# EAGLE library part LSM6DSL (library clackboard_lib)
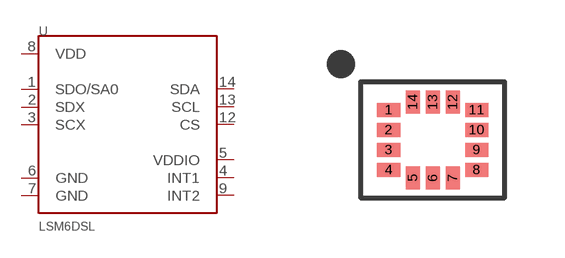
[diagram p11: symbol with the pads of LSM6DSL; footprint LSM6DSL]

Designator prefix U

## LSM6DSL  [LSM6DSL]
1  SDO/SA0
2  SDX
3  SCX
4  INT1
5  VDDIO
6  GND
7  GND
8  VDD
9  INT2
12  CS
13  SCL
14  SDA

## Footprint LSM6DSL (pad centres in mm)
smd 0.575 x 0.35: 1 -1.1,0.75; 2 -1.1,0.25; 3 -1.1,-0.25; 4 -1.1,-0.75; 8 1.1,-0.75; 9 1.1,-0.25; 10 1.1,0.25; 11 1.1,0.75
smd 0.35 x 0.575: 5 -0.5,-0.95; 6 0,-0.95; 7 0.5,-0.95; 12 0.5,0.95; 13 0,0.95; 14 -0.5,0.95